# EAGLE library part BQ51050B (library Deegou_IC)
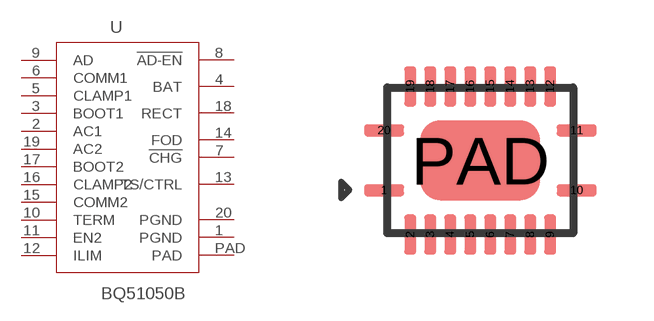
[diagram p56: symbol with the pads of VQFN20; footprint VQFN20]

Designator prefix U

## BQ51050B  [VQFN20]
1  PGND
2  AC1
3  BOOT1
4  BAT
5  CLAMP1
6  COMM1
7  !CHG
8  !AD-EN
9  AD
10  TERM
11  EN2
12  ILIM
13  TS/CTRL
14  FOD
15  COMM2
16  CLAMP2
17  BOOT2
18  RECT
19  AC2
20  PGND
PAD  PAD

## Footprint VQFN20 (pad centres in mm)
smd 1 x 0.3: 1 -2.41,-0.75; 10 2.41,-0.75; 11 2.41,0.75; 20 -2.41,0.75
smd 0.3 x 1: 2 -1.75,-1.855; 3 -1.25,-1.855; 4 -0.75,-1.855; 5 -0.25,-1.855; 6 0.25,-1.855; 7 0.75,-1.855; 8 1.25,-1.855; 9 1.75,-1.855; 12 1.75,1.855; 13 1.25,1.855; 14 0.75,1.855; 15 0.25,1.855; 16 -0.25,1.855; 17 -0.75,1.855; 18 -1.25,1.855; 19 -1.75,1.855
smd 3 x 2: PAD 0,0